# EAGLE library part MEMORY-SAMSUNG-2_KM628512-XX (library snesram)
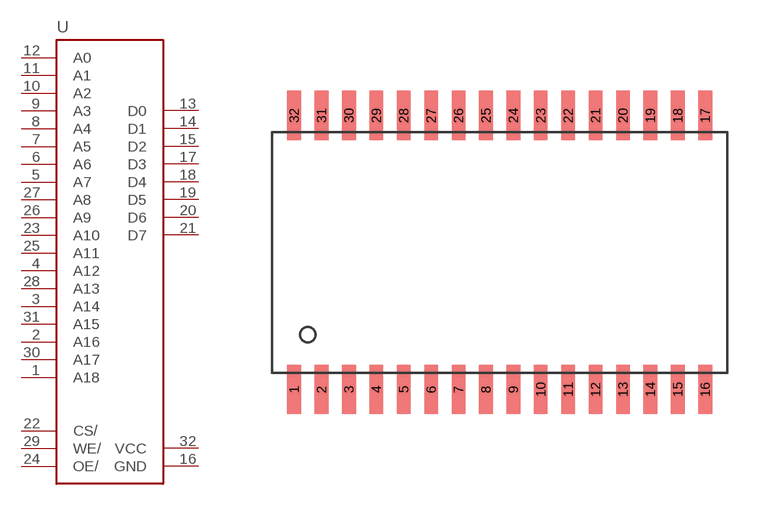
[diagram p9: symbol with the pads of MEMORY-SAMSUNG-2_SOP-32; footprint MEMORY-SAMSUNG-2_SOP-32]

Designator prefix -

## MEMORY-SAMSUNG-2_KM628512-XX  [MEMORY-SAMSUNG-2_SOP-32]
1  A18  in
2  A16  in
3  A14  in
4  A12  in
5  A7  in
6  A6  in
7  A5  in
8  A4  in
9  A3  in
10  A2  in
11  A1  in
12  A0  in
13  D0  hiz
14  D1  hiz
15  D2  hiz
16  GND  pwr
17  D3  hiz
18  D4  hiz
19  D5  hiz
20  D6  hiz
21  D7  hiz
22  CS/  in
23  A10  in
24  OE/  in
25  A11  in
26  A9  in
27  A8  in
28  A13  in
29  WE/  in
30  A17  in
31  A15  in
32  VCC  pwr

## Footprint MEMORY-SAMSUNG-2_SOP-32 (pad centres in mm)
smd 0.635 x 2.286: 1 -9.525,-6.35; 2 -8.255,-6.35; 3 -6.985,-6.35; 4 -5.715,-6.35; 5 -4.445,-6.35; 6 -3.175,-6.35; 7 -1.905,-6.35; 8 -0.635,-6.35; 9 0.635,-6.35; 10 1.905,-6.35; 11 3.175,-6.35; 12 4.445,-6.35; 13 5.715,-6.35; 14 6.985,-6.35; 15 8.255,-6.35; 16 9.525,-6.35; 17 9.525,6.35; 18 8.255,6.35; 19 6.985,6.35; 20 5.715,6.35; 21 4.445,6.35; 22 3.175,6.35; 23 1.905,6.35; 24 0.635,6.35; 25 -0.635,6.35; 26 -1.905,6.35; 27 -3.175,6.35; 28 -4.445,6.35; 29 -5.715,6.35; 30 -6.985,6.35; 31 -8.255,6.35; 32 -9.525,6.35